# Altium integrated library Cypress Memory Asynchronous FIFO.IntLib: 158 symbols (part 3 of 4)
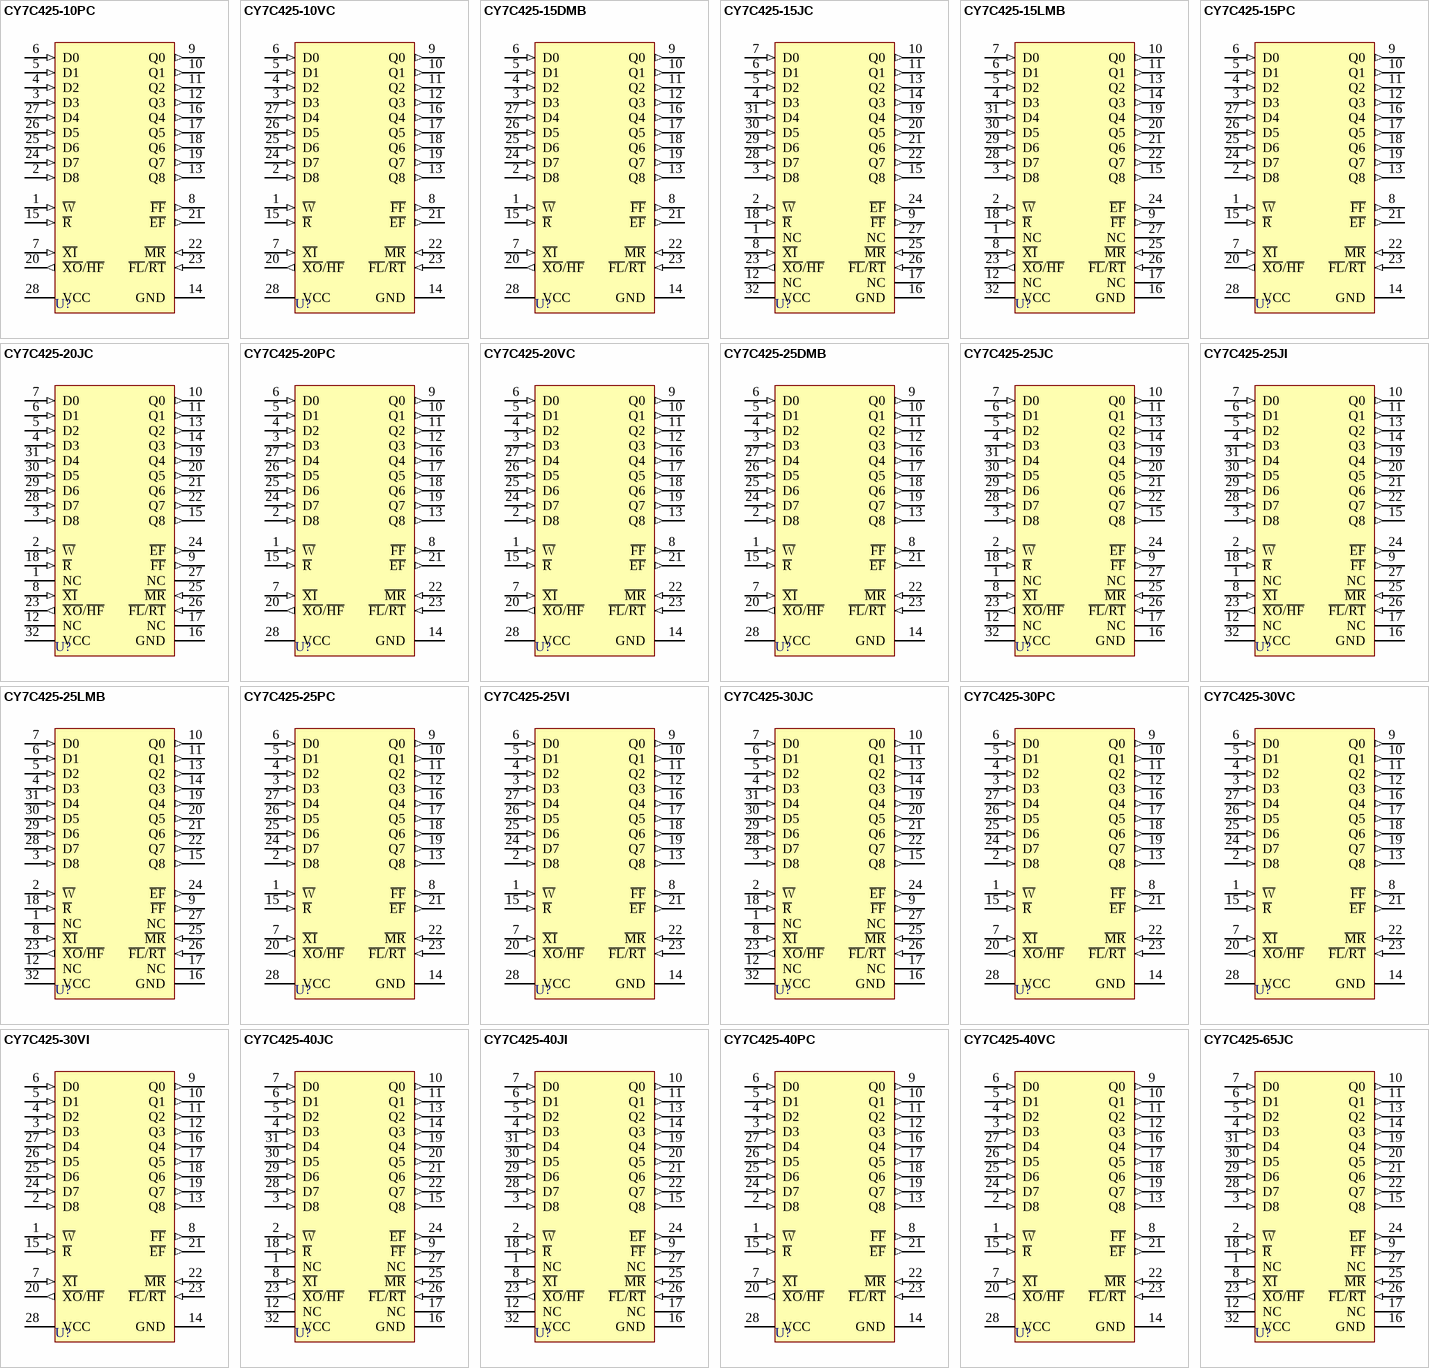
[diagram p8: symbols CY7C425-10PC to CY7C425-65JC]

## CY7C425-25LMB
designator U?
1K x 9 Asynchronous First-In First-Out; Published: 11-Dec-2002; DatasheetVersion: 4-Nov-1997; PackageVersion: Nov-1997; PackageReference: L55; Publisher: Altium Limited; PackageDescription: Leadless Chip Carrier; 32 Terminals; Body 11.4 x 14 mm; ComponentLink1Description: Manufacturer Link; ComponentLink1URL: http://www.cypress.com/; ComponentLink2Description: Datasheet; ComponentLink2URL: http://www.cypress.com/portal/server.pt/gateway/PTARGS_0_2_1524_209_259_43/http%3B/sjapp20.mis.cypress.com%3B7001/publishedcontent/publish/design_resources/datasheets/contents/cy7c419_5.pdf
footprint L55 (Leadless Chip Carrier; 32 Terminals; Body 11.4 x 14 mm)
pins: 1 NC, 2 ~{W} (in), 3 D8 (in), 4 D3 (in), 5 D2 (in), 6 D1 (in), 7 D0 (in), 8 ~{XI} (in), 9 ~{FF} (out), 10 Q0 (out), 11 Q1 (out), 12 NC, 13 Q2 (out), 14 Q3 (out), 15 Q8 (out), 16 GND (power), 17 NC, 18 ~{R} (in), 19 Q4 (out), 20 Q5 (out), 21 Q6 (out), 22 Q7 (out), 23 ~{XO}/~{HF} (out), 24 ~{EF} (out), 25 ~{MR} (in), 26 ~{FL}/~{RT} (in), 27 NC, 28 D7 (in), 29 D6 (in), 30 D5 (in), 31 D4 (in), 32 VCC (power)

## CY7C425-25PC
designator U?
1K x 9 Asynchronous First-In First-Out; Published: 11-Dec-2002; LatestRevisionDate: 04-Mar-2005; LatestRevisionNote: Stylized 3D Model Added.; DatasheetVersion: 4-Nov-1997; PackageVersion: Jul-2000; PackageReference: P21; Publisher: Altium Limited; PackageDescription: DIP, Molded; 28 Leads; Row Spacing 7.62 mm; Pitch 2.54 mm; ComponentLink1Description: Manufacturer Link; ComponentLink1URL: http://www.cypress.com/; ComponentLink2Description: Datasheet; ComponentLink2URL: http://www.cypress.com/portal/server.pt/gateway/PTARGS_0_2_1524_209_259_43/http%3B/sjapp20.mis.cypress.com%3B7001/publishedcontent/publish/design_resources/datasheets/contents/cy7c419_5.pdf
footprint P21 (DIP, Molded; 28 Leads; Row Spacing 7.62 mm; Pitch 2.54 mm)
3D model P21 (DIP, Molded; 28 Leads; Row Spacing 7.62 mm; Pitch 2.54 mm)
pins: 1 ~{W} (in), 2 D8 (in), 3 D3 (in), 4 D2 (in), 5 D1 (in), 6 D0 (in), 7 ~{XI} (in), 8 ~{FF} (out), 9 Q0 (out), 10 Q1 (out), 11 Q2 (out), 12 Q3 (out), 13 Q8 (out), 14 GND (power), 15 ~{R} (in), 16 Q4 (out), 17 Q5 (out), 18 Q6 (out), 19 Q7 (out), 20 ~{XO}/~{HF} (out), 21 ~{EF} (out), 22 ~{MR} (in), 23 ~{FL}/~{RT} (in), 24 D7 (in), 25 D6 (in), 26 D5 (in), 27 D4 (in), 28 VCC (power)

## CY7C425-25VI
designator U?
1K x 9 Asynchronous First-In First-Out; Published: 11-Dec-2002; LatestRevisionDate: 04-Mar-2005; LatestRevisionNote: Stylized 3D Model Added.; DatasheetVersion: 4-Nov-1997; PackageVersion: Jul-1994; PackageReference: V21; Publisher: Altium Limited; PackageDescription: SOJ, Molded; 28 Leads; Body Width 7.5 mm; ComponentLink1Description: Manufacturer Link; ComponentLink1URL: http://www.cypress.com/; ComponentLink2Description: Datasheet; ComponentLink2URL: http://www.cypress.com/portal/server.pt/gateway/PTARGS_0_2_1524_209_259_43/http%3B/sjapp20.mis.cypress.com%3B7001/publishedcontent/publish/design_resources/datasheets/contents/cy7c419_5.pdf
footprint V21 (SOJ, Molded; 28 Leads; Body Width 7.5 mm)
3D model V21 (SOJ, Molded; 28 Leads; Body Width 7.5 mm)
pins: 1 ~{W} (in), 2 D8 (in), 3 D3 (in), 4 D2 (in), 5 D1 (in), 6 D0 (in), 7 ~{XI} (in), 8 ~{FF} (out), 9 Q0 (out), 10 Q1 (out), 11 Q2 (out), 12 Q3 (out), 13 Q8 (out), 14 GND (power), 15 ~{R} (in), 16 Q4 (out), 17 Q5 (out), 18 Q6 (out), 19 Q7 (out), 20 ~{XO}/~{HF} (out), 21 ~{EF} (out), 22 ~{MR} (in), 23 ~{FL}/~{RT} (in), 24 D7 (in), 25 D6 (in), 26 D5 (in), 27 D4 (in), 28 VCC (power)

## CY7C425-30JC
designator U?
1K x 9 Asynchronous First-In First-Out; Published: 11-Dec-2002; LatestRevisionDate: 04-Mar-2005; LatestRevisionNote: Stylized 3D Model Added.; DatasheetVersion: 4-Nov-1997; PackageVersion: Nov-1997; PackageReference: J65; Publisher: Altium Limited; PackageDescription: PLCC; 32 Leads; Body 11.4 x 14 mm; Pitch 1.27 mm; Code_JEDEC: MS-016-AE; Code_IPC: PLCC/R-32; ComponentLink1Description: Manufacturer Link; ComponentLink1URL: http://www.cypress.com/; ComponentLink2Description: Datasheet; ComponentLink2URL: http://www.cypress.com/portal/server.pt/gateway/PTARGS_0_2_1524_209_259_43/http%3B/sjapp20.mis.cypress.com%3B7001/publishedcontent/publish/design_resources/datasheets/contents/cy7c419_5.pdf
footprint J65 (PLCC; 32 Leads; Body 11.4 x 14 mm; Pitch 1.27 mm)
3D model CY7C425-J65 (PLCC; 32 Leads; Body 11.4 x 14 mm; Pitch 1.27 mm)
pins: 1 NC, 2 ~{W} (in), 3 D8 (in), 4 D3 (in), 5 D2 (in), 6 D1 (in), 7 D0 (in), 8 ~{XI} (in), 9 ~{FF} (out), 10 Q0 (out), 11 Q1 (out), 12 NC, 13 Q2 (out), 14 Q3 (out), 15 Q8 (out), 16 GND (power), 17 NC, 18 ~{R} (in), 19 Q4 (out), 20 Q5 (out), 21 Q6 (out), 22 Q7 (out), 23 ~{XO}/~{HF} (out), 24 ~{EF} (out), 25 ~{MR} (in), 26 ~{FL}/~{RT} (in), 27 NC, 28 D7 (in), 29 D6 (in), 30 D5 (in), 31 D4 (in), 32 VCC (power)

## CY7C425-30PC
designator U?
1K x 9 Asynchronous First-In First-Out; Published: 11-Dec-2002; LatestRevisionDate: 04-Mar-2005; LatestRevisionNote: Stylized 3D Model Added.; DatasheetVersion: 4-Nov-1997; PackageVersion: Jul-2000; PackageReference: P21; Publisher: Altium Limited; PackageDescription: DIP, Molded; 28 Leads; Row Spacing 7.62 mm; Pitch 2.54 mm; ComponentLink1Description: Manufacturer Link; ComponentLink1URL: http://www.cypress.com/; ComponentLink2Description: Datasheet; ComponentLink2URL: http://www.cypress.com/portal/server.pt/gateway/PTARGS_0_2_1524_209_259_43/http%3B/sjapp20.mis.cypress.com%3B7001/publishedcontent/publish/design_resources/datasheets/contents/cy7c419_5.pdf
footprint P21 (DIP, Molded; 28 Leads; Row Spacing 7.62 mm; Pitch 2.54 mm)
3D model P21 (DIP, Molded; 28 Leads; Row Spacing 7.62 mm; Pitch 2.54 mm)
pins: 1 ~{W} (in), 2 D8 (in), 3 D3 (in), 4 D2 (in), 5 D1 (in), 6 D0 (in), 7 ~{XI} (in), 8 ~{FF} (out), 9 Q0 (out), 10 Q1 (out), 11 Q2 (out), 12 Q3 (out), 13 Q8 (out), 14 GND (power), 15 ~{R} (in), 16 Q4 (out), 17 Q5 (out), 18 Q6 (out), 19 Q7 (out), 20 ~{XO}/~{HF} (out), 21 ~{EF} (out), 22 ~{MR} (in), 23 ~{FL}/~{RT} (in), 24 D7 (in), 25 D6 (in), 26 D5 (in), 27 D4 (in), 28 VCC (power)

## CY7C425-30VC
designator U?
1K x 9 Asynchronous First-In First-Out; Published: 11-Dec-2002; LatestRevisionDate: 04-Mar-2005; LatestRevisionNote: Stylized 3D Model Added.; DatasheetVersion: 4-Nov-1997; PackageVersion: Jul-1994; PackageReference: V21; Publisher: Altium Limited; PackageDescription: SOJ, Molded; 28 Leads; Body Width 7.5 mm; ComponentLink1Description: Manufacturer Link; ComponentLink1URL: http://www.cypress.com/; ComponentLink2Description: Datasheet; ComponentLink2URL: http://www.cypress.com/portal/server.pt/gateway/PTARGS_0_2_1524_209_259_43/http%3B/sjapp20.mis.cypress.com%3B7001/publishedcontent/publish/design_resources/datasheets/contents/cy7c419_5.pdf
footprint V21 (SOJ, Molded; 28 Leads; Body Width 7.5 mm)
3D model V21 (SOJ, Molded; 28 Leads; Body Width 7.5 mm)
pins: 1 ~{W} (in), 2 D8 (in), 3 D3 (in), 4 D2 (in), 5 D1 (in), 6 D0 (in), 7 ~{XI} (in), 8 ~{FF} (out), 9 Q0 (out), 10 Q1 (out), 11 Q2 (out), 12 Q3 (out), 13 Q8 (out), 14 GND (power), 15 ~{R} (in), 16 Q4 (out), 17 Q5 (out), 18 Q6 (out), 19 Q7 (out), 20 ~{XO}/~{HF} (out), 21 ~{EF} (out), 22 ~{MR} (in), 23 ~{FL}/~{RT} (in), 24 D7 (in), 25 D6 (in), 26 D5 (in), 27 D4 (in), 28 VCC (power)

## CY7C425-30VI
designator U?
1K x 9 Asynchronous First-In First-Out; Published: 11-Dec-2002; LatestRevisionDate: 04-Mar-2005; LatestRevisionNote: Stylized 3D Model Added.; DatasheetVersion: 4-Nov-1997; PackageVersion: Jul-1994; PackageReference: V21; Publisher: Altium Limited; PackageDescription: SOJ, Molded; 28 Leads; Body Width 7.5 mm; ComponentLink1Description: Manufacturer Link; ComponentLink1URL: http://www.cypress.com/; ComponentLink2Description: Datasheet; ComponentLink2URL: http://www.cypress.com/portal/server.pt/gateway/PTARGS_0_2_1524_209_259_43/http%3B/sjapp20.mis.cypress.com%3B7001/publishedcontent/publish/design_resources/datasheets/contents/cy7c419_5.pdf
footprint V21 (SOJ, Molded; 28 Leads; Body Width 7.5 mm)
3D model V21 (SOJ, Molded; 28 Leads; Body Width 7.5 mm)
pins: 1 ~{W} (in), 2 D8 (in), 3 D3 (in), 4 D2 (in), 5 D1 (in), 6 D0 (in), 7 ~{XI} (in), 8 ~{FF} (out), 9 Q0 (out), 10 Q1 (out), 11 Q2 (out), 12 Q3 (out), 13 Q8 (out), 14 GND (power), 15 ~{R} (in), 16 Q4 (out), 17 Q5 (out), 18 Q6 (out), 19 Q7 (out), 20 ~{XO}/~{HF} (out), 21 ~{EF} (out), 22 ~{MR} (in), 23 ~{FL}/~{RT} (in), 24 D7 (in), 25 D6 (in), 26 D5 (in), 27 D4 (in), 28 VCC (power)

## CY7C425-40JC
designator U?
1K x 9 Asynchronous First-In First-Out; Published: 11-Dec-2002; LatestRevisionDate: 04-Mar-2005; LatestRevisionNote: Stylized 3D Model Added.; DatasheetVersion: 4-Nov-1997; PackageVersion: Nov-1997; PackageReference: J65; Publisher: Altium Limited; PackageDescription: PLCC; 32 Leads; Body 11.4 x 14 mm; Pitch 1.27 mm; Code_JEDEC: MS-016-AE; Code_IPC: PLCC/R-32; ComponentLink1Description: Manufacturer Link; ComponentLink1URL: http://www.cypress.com/; ComponentLink2Description: Datasheet; ComponentLink2URL: http://www.cypress.com/portal/server.pt/gateway/PTARGS_0_2_1524_209_259_43/http%3B/sjapp20.mis.cypress.com%3B7001/publishedcontent/publish/design_resources/datasheets/contents/cy7c419_5.pdf
footprint J65 (PLCC; 32 Leads; Body 11.4 x 14 mm; Pitch 1.27 mm)
3D model CY7C425-J65 (PLCC; 32 Leads; Body 11.4 x 14 mm; Pitch 1.27 mm)
pins: 1 NC, 2 ~{W} (in), 3 D8 (in), 4 D3 (in), 5 D2 (in), 6 D1 (in), 7 D0 (in), 8 ~{XI} (in), 9 ~{FF} (out), 10 Q0 (out), 11 Q1 (out), 12 NC, 13 Q2 (out), 14 Q3 (out), 15 Q8 (out), 16 GND (power), 17 NC, 18 ~{R} (in), 19 Q4 (out), 20 Q5 (out), 21 Q6 (out), 22 Q7 (out), 23 ~{XO}/~{HF} (out), 24 ~{EF} (out), 25 ~{MR} (in), 26 ~{FL}/~{RT} (in), 27 NC, 28 D7 (in), 29 D6 (in), 30 D5 (in), 31 D4 (in), 32 VCC (power)

## CY7C425-40JI
designator U?
1K x 9 Asynchronous First-In First-Out; Published: 11-Dec-2002; LatestRevisionDate: 04-Mar-2005; LatestRevisionNote: Stylized 3D Model Added.; DatasheetVersion: 4-Nov-1997; PackageVersion: Nov-1997; PackageReference: J65; Publisher: Altium Limited; PackageDescription: PLCC; 32 Leads; Body 11.4 x 14 mm; Pitch 1.27 mm; Code_JEDEC: MS-016-AE; Code_IPC: PLCC/R-32; ComponentLink1Description: Manufacturer Link; ComponentLink1URL: http://www.cypress.com/; ComponentLink2Description: Datasheet; ComponentLink2URL: http://www.cypress.com/portal/server.pt/gateway/PTARGS_0_2_1524_209_259_43/http%3B/sjapp20.mis.cypress.com%3B7001/publishedcontent/publish/design_resources/datasheets/contents/cy7c419_5.pdf
footprint J65 (PLCC; 32 Leads; Body 11.4 x 14 mm; Pitch 1.27 mm)
3D model CY7C425-J65 (PLCC; 32 Leads; Body 11.4 x 14 mm; Pitch 1.27 mm)
pins: 1 NC, 2 ~{W} (in), 3 D8 (in), 4 D3 (in), 5 D2 (in), 6 D1 (in), 7 D0 (in), 8 ~{XI} (in), 9 ~{FF} (out), 10 Q0 (out), 11 Q1 (out), 12 NC, 13 Q2 (out), 14 Q3 (out), 15 Q8 (out), 16 GND (power), 17 NC, 18 ~{R} (in), 19 Q4 (out), 20 Q5 (out), 21 Q6 (out), 22 Q7 (out), 23 ~{XO}/~{HF} (out), 24 ~{EF} (out), 25 ~{MR} (in), 26 ~{FL}/~{RT} (in), 27 NC, 28 D7 (in), 29 D6 (in), 30 D5 (in), 31 D4 (in), 32 VCC (power)

## CY7C425-40PC
designator U?
1K x 9 Asynchronous First-In First-Out; Published: 11-Dec-2002; LatestRevisionDate: 04-Mar-2005; LatestRevisionNote: Stylized 3D Model Added.; DatasheetVersion: 4-Nov-1997; PackageVersion: Jul-2000; PackageReference: P21; Publisher: Altium Limited; PackageDescription: DIP, Molded; 28 Leads; Row Spacing 7.62 mm; Pitch 2.54 mm; ComponentLink1Description: Manufacturer Link; ComponentLink1URL: http://www.cypress.com/; ComponentLink2Description: Datasheet; ComponentLink2URL: http://www.cypress.com/portal/server.pt/gateway/PTARGS_0_2_1524_209_259_43/http%3B/sjapp20.mis.cypress.com%3B7001/publishedcontent/publish/design_resources/datasheets/contents/cy7c419_5.pdf
footprint P21 (DIP, Molded; 28 Leads; Row Spacing 7.62 mm; Pitch 2.54 mm)
3D model P21 (DIP, Molded; 28 Leads; Row Spacing 7.62 mm; Pitch 2.54 mm)
pins: 1 ~{W} (in), 2 D8 (in), 3 D3 (in), 4 D2 (in), 5 D1 (in), 6 D0 (in), 7 ~{XI} (in), 8 ~{FF} (out), 9 Q0 (out), 10 Q1 (out), 11 Q2 (out), 12 Q3 (out), 13 Q8 (out), 14 GND (power), 15 ~{R} (in), 16 Q4 (out), 17 Q5 (out), 18 Q6 (out), 19 Q7 (out), 20 ~{XO}/~{HF} (out), 21 ~{EF} (out), 22 ~{MR} (in), 23 ~{FL}/~{RT} (in), 24 D7 (in), 25 D6 (in), 26 D5 (in), 27 D4 (in), 28 VCC (power)

## CY7C425-40VC
designator U?
1K x 9 Asynchronous First-In First-Out; Published: 11-Dec-2002; LatestRevisionDate: 04-Mar-2005; LatestRevisionNote: Stylized 3D Model Added.; DatasheetVersion: 4-Nov-1997; PackageVersion: Jul-1994; PackageReference: V21; Publisher: Altium Limited; PackageDescription: SOJ, Molded; 28 Leads; Body Width 7.5 mm; ComponentLink1Description: Manufacturer Link; ComponentLink1URL: http://www.cypress.com/; ComponentLink2Description: Datasheet; ComponentLink2URL: http://www.cypress.com/portal/server.pt/gateway/PTARGS_0_2_1524_209_259_43/http%3B/sjapp20.mis.cypress.com%3B7001/publishedcontent/publish/design_resources/datasheets/contents/cy7c419_5.pdf
footprint V21 (SOJ, Molded; 28 Leads; Body Width 7.5 mm)
3D model V21 (SOJ, Molded; 28 Leads; Body Width 7.5 mm)
pins: 1 ~{W} (in), 2 D8 (in), 3 D3 (in), 4 D2 (in), 5 D1 (in), 6 D0 (in), 7 ~{XI} (in), 8 ~{FF} (out), 9 Q0 (out), 10 Q1 (out), 11 Q2 (out), 12 Q3 (out), 13 Q8 (out), 14 GND (power), 15 ~{R} (in), 16 Q4 (out), 17 Q5 (out), 18 Q6 (out), 19 Q7 (out), 20 ~{XO}/~{HF} (out), 21 ~{EF} (out), 22 ~{MR} (in), 23 ~{FL}/~{RT} (in), 24 D7 (in), 25 D6 (in), 26 D5 (in), 27 D4 (in), 28 VCC (power)

## CY7C425-65JC
designator U?
1K x 9 Asynchronous First-In First-Out; Published: 11-Dec-2002; LatestRevisionDate: 04-Mar-2005; LatestRevisionNote: Stylized 3D Model Added.; DatasheetVersion: 4-Nov-1997; PackageVersion: Nov-1997; PackageReference: J65; Publisher: Altium Limited; PackageDescription: PLCC; 32 Leads; Body 11.4 x 14 mm; Pitch 1.27 mm; Code_JEDEC: MS-016-AE; Code_IPC: PLCC/R-32; ComponentLink1Description: Manufacturer Link; ComponentLink1URL: http://www.cypress.com/; ComponentLink2Description: Datasheet; ComponentLink2URL: http://www.cypress.com/portal/server.pt/gateway/PTARGS_0_2_1524_209_259_43/http%3B/sjapp20.mis.cypress.com%3B7001/publishedcontent/publish/design_resources/datasheets/contents/cy7c419_5.pdf
footprint J65 (PLCC; 32 Leads; Body 11.4 x 14 mm; Pitch 1.27 mm)
3D model CY7C425-J65 (PLCC; 32 Leads; Body 11.4 x 14 mm; Pitch 1.27 mm)
pins: 1 NC, 2 ~{W} (in), 3 D8 (in), 4 D3 (in), 5 D2 (in), 6 D1 (in), 7 D0 (in), 8 ~{XI} (in), 9 ~{FF} (out), 10 Q0 (out), 11 Q1 (out), 12 NC, 13 Q2 (out), 14 Q3 (out), 15 Q8 (out), 16 GND (power), 17 NC, 18 ~{R} (in), 19 Q4 (out), 20 Q5 (out), 21 Q6 (out), 22 Q7 (out), 23 ~{XO}/~{HF} (out), 24 ~{EF} (out), 25 ~{MR} (in), 26 ~{FL}/~{RT} (in), 27 NC, 28 D7 (in), 29 D6 (in), 30 D5 (in), 31 D4 (in), 32 VCC (power)

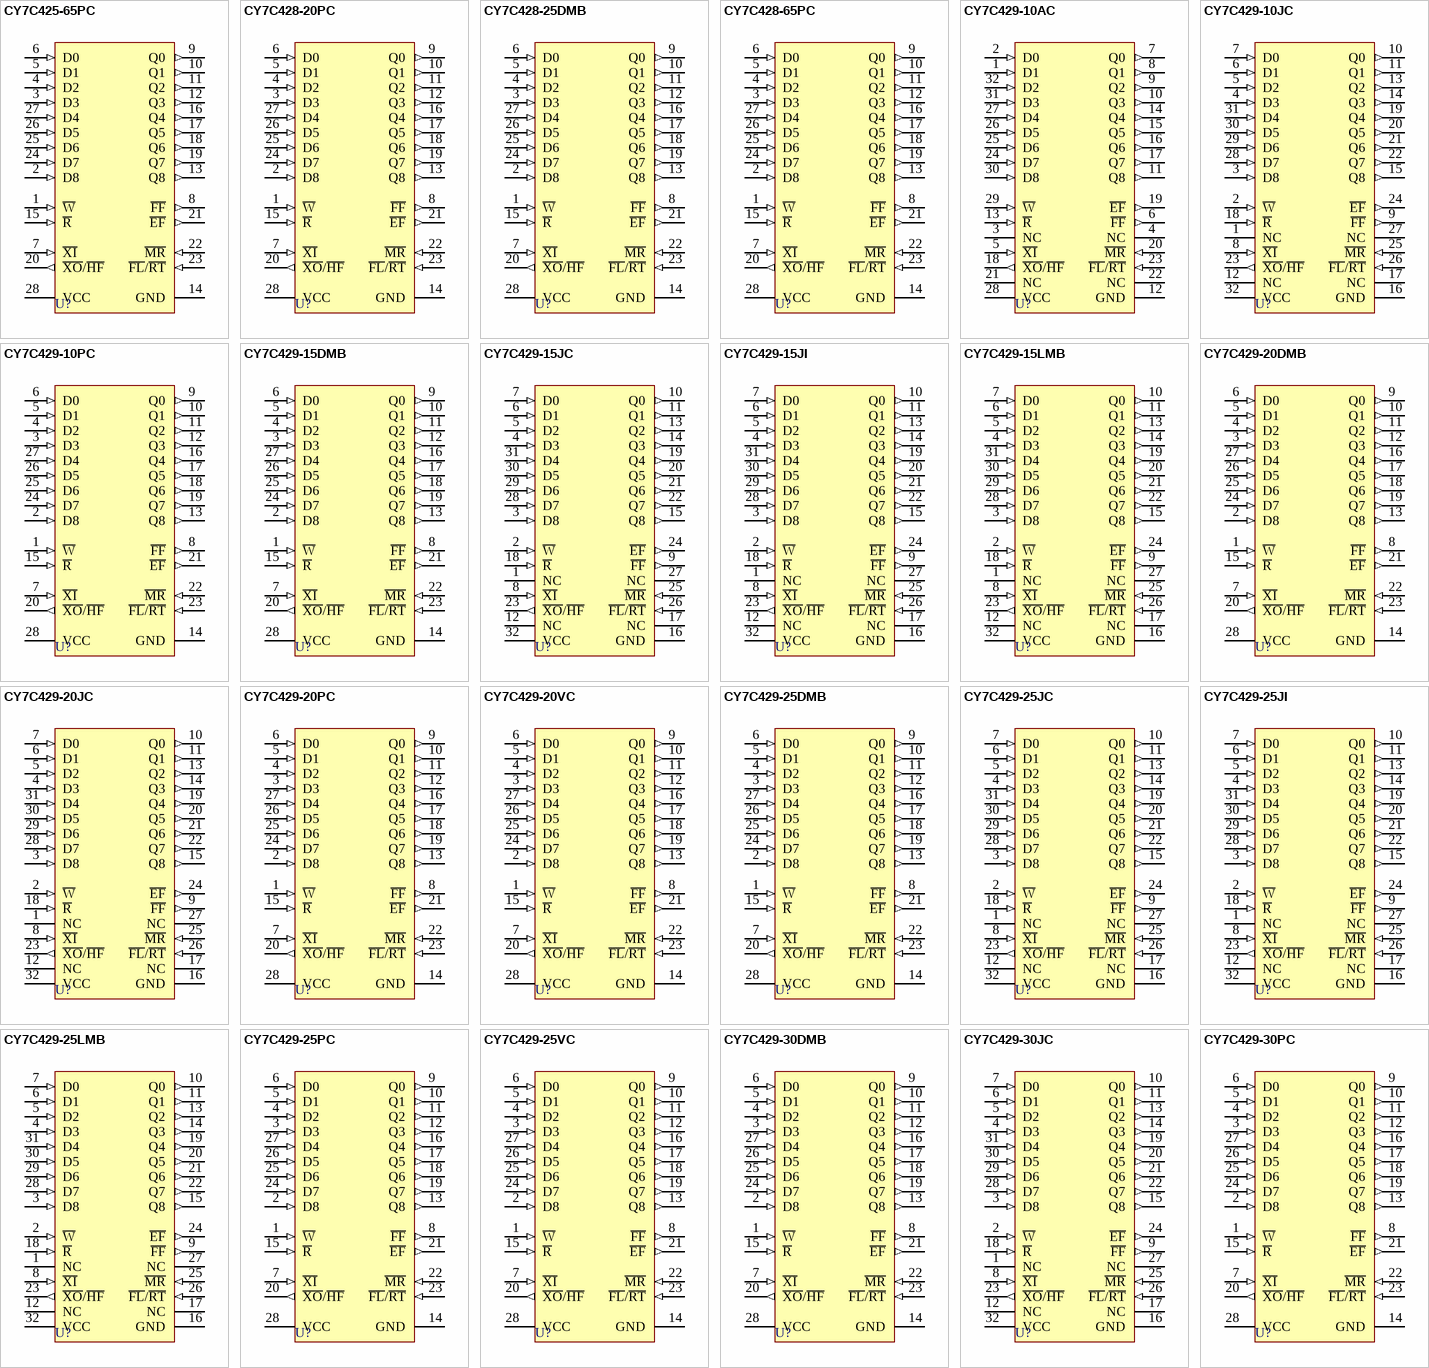
[diagram p4: symbols CY7C425-65PC to CY7C429-30PC]

## CY7C425-65PC
designator U?
1K x 9 Asynchronous First-In First-Out; Published: 11-Dec-2002; LatestRevisionDate: 04-Mar-2005; LatestRevisionNote: Stylized 3D Model Added.; DatasheetVersion: 4-Nov-1997; PackageVersion: Jul-2000; PackageReference: P21; Publisher: Altium Limited; PackageDescription: DIP, Molded; 28 Leads; Row Spacing 7.62 mm; Pitch 2.54 mm; ComponentLink1Description: Manufacturer Link; ComponentLink1URL: http://www.cypress.com/; ComponentLink2Description: Datasheet; ComponentLink2URL: http://www.cypress.com/portal/server.pt/gateway/PTARGS_0_2_1524_209_259_43/http%3B/sjapp20.mis.cypress.com%3B7001/publishedcontent/publish/design_resources/datasheets/contents/cy7c419_5.pdf
footprint P21 (DIP, Molded; 28 Leads; Row Spacing 7.62 mm; Pitch 2.54 mm)
3D model P21 (DIP, Molded; 28 Leads; Row Spacing 7.62 mm; Pitch 2.54 mm)
pins: 1 ~{W} (in), 2 D8 (in), 3 D3 (in), 4 D2 (in), 5 D1 (in), 6 D0 (in), 7 ~{XI} (in), 8 ~{FF} (out), 9 Q0 (out), 10 Q1 (out), 11 Q2 (out), 12 Q3 (out), 13 Q8 (out), 14 GND (power), 15 ~{R} (in), 16 Q4 (out), 17 Q5 (out), 18 Q6 (out), 19 Q7 (out), 20 ~{XO}/~{HF} (out), 21 ~{EF} (out), 22 ~{MR} (in), 23 ~{FL}/~{RT} (in), 24 D7 (in), 25 D6 (in), 26 D5 (in), 27 D4 (in), 28 VCC (power)

## CY7C428-20PC
designator U?
2K x 9 Asynchronous First-In First-Out; Published: 11-Dec-2002; LatestRevisionDate: 04-Mar-2005; LatestRevisionNote: Stylized 3D Model Added.; DatasheetVersion: 4-Nov-1997; PackageVersion: Nov-1997; PackageReference: P15; Publisher: Altium Limited; PackageDescription: DIP, Molded; 28 Leads; Row Spacing 15.24 mm; Pitch 2.54 mm; ComponentLink1Description: Manufacturer Link; ComponentLink1URL: http://www.cypress.com/; ComponentLink2Description: Datasheet; ComponentLink2URL: http://www.cypress.com/portal/server.pt/gateway/PTARGS_0_2_1524_209_259_43/http%3B/sjapp20.mis.cypress.com%3B7001/publishedcontent/publish/design_resources/datasheets/contents/cy7c419_5.pdf
footprint P15 (DIP, Molded; 28 Leads; Row Spacing 15.24 mm; Pitch 2.54 mm)
3D model P15 (DIP, Molded; 28 Leads; Row Spacing 15.24 mm; Pitch 2.54 mm)
pins: 1 ~{W} (in), 2 D8 (in), 3 D3 (in), 4 D2 (in), 5 D1 (in), 6 D0 (in), 7 ~{XI} (in), 8 ~{FF} (out), 9 Q0 (out), 10 Q1 (out), 11 Q2 (out), 12 Q3 (out), 13 Q8 (out), 14 GND (power), 15 ~{R} (in), 16 Q4 (out), 17 Q5 (out), 18 Q6 (out), 19 Q7 (out), 20 ~{XO}/~{HF} (out), 21 ~{EF} (out), 22 ~{MR} (in), 23 ~{FL}/~{RT} (in), 24 D7 (in), 25 D6 (in), 26 D5 (in), 27 D4 (in), 28 VCC (power)

## CY7C428-25DMB
designator U?
2K x 9 Asynchronous First-In First-Out; Published: 11-Dec-2002; LatestRevisionDate: 04-Mar-2005; LatestRevisionNote: Stylized 3D Model Added.; DatasheetVersion: 4-Nov-1997; PackageVersion: Nov-1997; PackageReference: D16; Publisher: Altium Limited; PackageDescription: CerDIP; 28 Leads; Row Spacing 15.24 mm; Pitch 2.54 mm; ComponentLink1Description: Manufacturer Link; ComponentLink1URL: http://www.cypress.com/; ComponentLink2Description: Datasheet; ComponentLink2URL: http://www.cypress.com/portal/server.pt/gateway/PTARGS_0_2_1524_209_259_43/http%3B/sjapp20.mis.cypress.com%3B7001/publishedcontent/publish/design_resources/datasheets/contents/cy7c419_5.pdf
footprint D16 (CerDIP; 28 Leads; Row Spacing 15.24 mm; Pitch 2.54 mm)
3D model P15 (CerDIP; 28 Leads; Row Spacing 15.24 mm; Pitch 2.54 mm)
pins: 1 ~{W} (in), 2 D8 (in), 3 D3 (in), 4 D2 (in), 5 D1 (in), 6 D0 (in), 7 ~{XI} (in), 8 ~{FF} (out), 9 Q0 (out), 10 Q1 (out), 11 Q2 (out), 12 Q3 (out), 13 Q8 (out), 14 GND (power), 15 ~{R} (in), 16 Q4 (out), 17 Q5 (out), 18 Q6 (out), 19 Q7 (out), 20 ~{XO}/~{HF} (out), 21 ~{EF} (out), 22 ~{MR} (in), 23 ~{FL}/~{RT} (in), 24 D7 (in), 25 D6 (in), 26 D5 (in), 27 D4 (in), 28 VCC (power)

## CY7C428-65PC
designator U?
2K x 9 Asynchronous First-In First-Out; Published: 11-Dec-2002; LatestRevisionDate: 04-Mar-2005; LatestRevisionNote: Stylized 3D Model Added.; DatasheetVersion: 4-Nov-1997; PackageVersion: Nov-1997; PackageReference: P15; Publisher: Altium Limited; PackageDescription: DIP, Molded; 28 Leads; Row Spacing 15.24 mm; Pitch 2.54 mm; ComponentLink1Description: Manufacturer Link; ComponentLink1URL: http://www.cypress.com/; ComponentLink2Description: Datasheet; ComponentLink2URL: http://www.cypress.com/portal/server.pt/gateway/PTARGS_0_2_1524_209_259_43/http%3B/sjapp20.mis.cypress.com%3B7001/publishedcontent/publish/design_resources/datasheets/contents/cy7c419_5.pdf
footprint P15 (DIP, Molded; 28 Leads; Row Spacing 15.24 mm; Pitch 2.54 mm)
3D model P15 (DIP, Molded; 28 Leads; Row Spacing 15.24 mm; Pitch 2.54 mm)
pins: 1 ~{W} (in), 2 D8 (in), 3 D3 (in), 4 D2 (in), 5 D1 (in), 6 D0 (in), 7 ~{XI} (in), 8 ~{FF} (out), 9 Q0 (out), 10 Q1 (out), 11 Q2 (out), 12 Q3 (out), 13 Q8 (out), 14 GND (power), 15 ~{R} (in), 16 Q4 (out), 17 Q5 (out), 18 Q6 (out), 19 Q7 (out), 20 ~{XO}/~{HF} (out), 21 ~{EF} (out), 22 ~{MR} (in), 23 ~{FL}/~{RT} (in), 24 D7 (in), 25 D6 (in), 26 D5 (in), 27 D4 (in), 28 VCC (power)

## CY7C429-10AC
designator U?
2K x 9 Asynchronous First-In First-Out; Published: 11-Dec-2002; LatestRevisionDate: 13-Apr-2006; LatestRevisionNote: IPC-7351 Footprint Added.; DatasheetVersion: 4-Nov-1997; PackageVersion: Nov-1997; PackageReference: A32; Publisher: Altium Limited; PackageDescription: 32-Pin Thin Plastic Quad Flat Pack 0.8 mm Pitch; ComponentLink1Description: Manufacturer Link; ComponentLink1URL: http://www.cypress.com/; ComponentLink2Description: Datasheet; ComponentLink2URL: http://www.cypress.com/portal/server.pt/gateway/PTARGS_0_2_1524_209_259_43/http%3B/sjapp20.mis.cypress.com%3B7001/publishedcontent/publish/design_resources/datasheets/contents/cy7c419_5.pdf
footprint A32_N (Thin QFP, 32-Leads, Body 7x7mm, Pitch 0.8mm, IPC Medium Density)
footprint A32_L (Thin QFP, 32-Leads, Body 7x7mm, Pitch 0.8mm, IPC High Density)
footprint A32_M (Thin QFP, 32-Leads, Body 7x7mm, Pitch 0.8mm, IPC Low Density)
3D model CY7C429-A32 (32-Pin Thin Plastic Quad Flat Pack 0.8 mm Pitch)
pins: 1 D1 (in), 2 D0 (in), 3 NC, 4 NC, 5 ~{XI} (in), 6 ~{FF} (out), 7 Q0 (out), 8 Q1 (out), 9 Q2 (out), 10 Q3 (out), 11 Q8 (out), 12 GND (power), 13 ~{R} (in), 14 Q4 (out), 15 Q5 (out), 16 Q6 (out), 17 Q7 (out), 18 ~{XO}/~{HF} (out), 19 ~{EF} (out), 20 ~{MR} (in), 21 NC, 22 NC, 23 ~{FL}/~{RT} (in), 24 D7 (in), 25 D6 (in), 26 D5 (in), 27 D4 (in), 28 VCC (power), 29 ~{W} (in), 30 D8 (in), 31 D3 (in), 32 D2 (in)

## CY7C429-10JC
designator U?
2K x 9 Asynchronous First-In First-Out; Published: 11-Dec-2002; LatestRevisionDate: 04-Mar-2005; LatestRevisionNote: Stylized 3D Model Added.; DatasheetVersion: 4-Nov-1997; PackageVersion: Nov-1997; PackageReference: J65; Publisher: Altium Limited; PackageDescription: PLCC; 32 Leads; Body 11.4 x 14 mm; Pitch 1.27 mm; Code_JEDEC: MS-016-AE; Code_IPC: PLCC/R-32; ComponentLink1Description: Manufacturer Link; ComponentLink1URL: http://www.cypress.com/; ComponentLink2Description: Datasheet; ComponentLink2URL: http://www.cypress.com/portal/server.pt/gateway/PTARGS_0_2_1524_209_259_43/http%3B/sjapp20.mis.cypress.com%3B7001/publishedcontent/publish/design_resources/datasheets/contents/cy7c419_5.pdf
footprint J65 (PLCC; 32 Leads; Body 11.4 x 14 mm; Pitch 1.27 mm)
3D model CY7C429-J65 (PLCC; 32 Leads; Body 11.4 x 14 mm; Pitch 1.27 mm)
pins: 1 NC, 2 ~{W} (in), 3 D8 (in), 4 D3 (in), 5 D2 (in), 6 D1 (in), 7 D0 (in), 8 ~{XI} (in), 9 ~{FF} (out), 10 Q0 (out), 11 Q1 (out), 12 NC, 13 Q2 (out), 14 Q3 (out), 15 Q8 (out), 16 GND (power), 17 NC, 18 ~{R} (in), 19 Q4 (out), 20 Q5 (out), 21 Q6 (out), 22 Q7 (out), 23 ~{XO}/~{HF} (out), 24 ~{EF} (out), 25 ~{MR} (in), 26 ~{FL}/~{RT} (in), 27 NC, 28 D7 (in), 29 D6 (in), 30 D5 (in), 31 D4 (in), 32 VCC (power)

## CY7C429-10PC
designator U?
2K x 9 Asynchronous First-In First-Out; Published: 11-Dec-2002; LatestRevisionDate: 04-Mar-2005; LatestRevisionNote: Stylized 3D Model Added.; DatasheetVersion: 4-Nov-1997; PackageVersion: Jul-2000; PackageReference: P21; Publisher: Altium Limited; PackageDescription: DIP, Molded; 28 Leads; Row Spacing 7.62 mm; Pitch 2.54 mm; ComponentLink1Description: Manufacturer Link; ComponentLink1URL: http://www.cypress.com/; ComponentLink2Description: Datasheet; ComponentLink2URL: http://www.cypress.com/portal/server.pt/gateway/PTARGS_0_2_1524_209_259_43/http%3B/sjapp20.mis.cypress.com%3B7001/publishedcontent/publish/design_resources/datasheets/contents/cy7c419_5.pdf
footprint P21 (DIP, Molded; 28 Leads; Row Spacing 7.62 mm; Pitch 2.54 mm)
3D model P21 (DIP, Molded; 28 Leads; Row Spacing 7.62 mm; Pitch 2.54 mm)
pins: 1 ~{W} (in), 2 D8 (in), 3 D3 (in), 4 D2 (in), 5 D1 (in), 6 D0 (in), 7 ~{XI} (in), 8 ~{FF} (out), 9 Q0 (out), 10 Q1 (out), 11 Q2 (out), 12 Q3 (out), 13 Q8 (out), 14 GND (power), 15 ~{R} (in), 16 Q4 (out), 17 Q5 (out), 18 Q6 (out), 19 Q7 (out), 20 ~{XO}/~{HF} (out), 21 ~{EF} (out), 22 ~{MR} (in), 23 ~{FL}/~{RT} (in), 24 D7 (in), 25 D6 (in), 26 D5 (in), 27 D4 (in), 28 VCC (power)

## CY7C429-15DMB
designator U?
2K x 9 Asynchronous First-In First-Out; Published: 11-Dec-2002; LatestRevisionDate: 04-Mar-2005; LatestRevisionNote: Stylized 3D Model Added.; DatasheetVersion: 4-Nov-1997; PackageVersion: Mar-1997; PackageReference: D22; Publisher: Altium Limited; PackageDescription: CerDIP; 28 Leads; Row Spacing 7.62 mm; Pitch 2.54 mm; ComponentLink1Description: Manufacturer Link; ComponentLink1URL: http://www.cypress.com/; ComponentLink2Description: Datasheet; ComponentLink2URL: http://www.cypress.com/portal/server.pt/gateway/PTARGS_0_2_1524_209_259_43/http%3B/sjapp20.mis.cypress.com%3B7001/publishedcontent/publish/design_resources/datasheets/contents/cy7c419_5.pdf
footprint D22 (CerDIP; 28 Leads; Row Spacing 7.62 mm; Pitch 2.54 mm)
3D model D22 (CerDIP; 28 Leads; Row Spacing 7.62 mm; Pitch 2.54 mm)
pins: 1 ~{W} (in), 2 D8 (in), 3 D3 (in), 4 D2 (in), 5 D1 (in), 6 D0 (in), 7 ~{XI} (in), 8 ~{FF} (out), 9 Q0 (out), 10 Q1 (out), 11 Q2 (out), 12 Q3 (out), 13 Q8 (out), 14 GND (power), 15 ~{R} (in), 16 Q4 (out), 17 Q5 (out), 18 Q6 (out), 19 Q7 (out), 20 ~{XO}/~{HF} (out), 21 ~{EF} (out), 22 ~{MR} (in), 23 ~{FL}/~{RT} (in), 24 D7 (in), 25 D6 (in), 26 D5 (in), 27 D4 (in), 28 VCC (power)

## CY7C429-15JC
designator U?
2K x 9 Asynchronous First-In First-Out; Published: 11-Dec-2002; LatestRevisionDate: 04-Mar-2005; LatestRevisionNote: Stylized 3D Model Added.; DatasheetVersion: 4-Nov-1997; PackageVersion: Nov-1997; PackageReference: J65; Publisher: Altium Limited; PackageDescription: PLCC; 32 Leads; Body 11.4 x 14 mm; Pitch 1.27 mm; Code_JEDEC: MS-016-AE; Code_IPC: PLCC/R-32; ComponentLink1Description: Manufacturer Link; ComponentLink1URL: http://www.cypress.com/; ComponentLink2Description: Datasheet; ComponentLink2URL: http://www.cypress.com/portal/server.pt/gateway/PTARGS_0_2_1524_209_259_43/http%3B/sjapp20.mis.cypress.com%3B7001/publishedcontent/publish/design_resources/datasheets/contents/cy7c419_5.pdf
footprint J65 (PLCC; 32 Leads; Body 11.4 x 14 mm; Pitch 1.27 mm)
3D model CY7C429-J65 (PLCC; 32 Leads; Body 11.4 x 14 mm; Pitch 1.27 mm)
pins: 1 NC, 2 ~{W} (in), 3 D8 (in), 4 D3 (in), 5 D2 (in), 6 D1 (in), 7 D0 (in), 8 ~{XI} (in), 9 ~{FF} (out), 10 Q0 (out), 11 Q1 (out), 12 NC, 13 Q2 (out), 14 Q3 (out), 15 Q8 (out), 16 GND (power), 17 NC, 18 ~{R} (in), 19 Q4 (out), 20 Q5 (out), 21 Q6 (out), 22 Q7 (out), 23 ~{XO}/~{HF} (out), 24 ~{EF} (out), 25 ~{MR} (in), 26 ~{FL}/~{RT} (in), 27 NC, 28 D7 (in), 29 D6 (in), 30 D5 (in), 31 D4 (in), 32 VCC (power)

## CY7C429-15JI
designator U?
2K x 9 Asynchronous First-In First-Out; Published: 11-Dec-2002; LatestRevisionDate: 04-Mar-2005; LatestRevisionNote: Stylized 3D Model Added.; DatasheetVersion: 4-Nov-1997; PackageVersion: Nov-1997; PackageReference: J65; Publisher: Altium Limited; PackageDescription: PLCC; 32 Leads; Body 11.4 x 14 mm; Pitch 1.27 mm; Code_JEDEC: MS-016-AE; Code_IPC: PLCC/R-32; ComponentLink1Description: Manufacturer Link; ComponentLink1URL: http://www.cypress.com/; ComponentLink2Description: Datasheet; ComponentLink2URL: http://www.cypress.com/portal/server.pt/gateway/PTARGS_0_2_1524_209_259_43/http%3B/sjapp20.mis.cypress.com%3B7001/publishedcontent/publish/design_resources/datasheets/contents/cy7c419_5.pdf
footprint J65 (PLCC; 32 Leads; Body 11.4 x 14 mm; Pitch 1.27 mm)
3D model CY7C429-J65 (PLCC; 32 Leads; Body 11.4 x 14 mm; Pitch 1.27 mm)
pins: 1 NC, 2 ~{W} (in), 3 D8 (in), 4 D3 (in), 5 D2 (in), 6 D1 (in), 7 D0 (in), 8 ~{XI} (in), 9 ~{FF} (out), 10 Q0 (out), 11 Q1 (out), 12 NC, 13 Q2 (out), 14 Q3 (out), 15 Q8 (out), 16 GND (power), 17 NC, 18 ~{R} (in), 19 Q4 (out), 20 Q5 (out), 21 Q6 (out), 22 Q7 (out), 23 ~{XO}/~{HF} (out), 24 ~{EF} (out), 25 ~{MR} (in), 26 ~{FL}/~{RT} (in), 27 NC, 28 D7 (in), 29 D6 (in), 30 D5 (in), 31 D4 (in), 32 VCC (power)

## CY7C429-15LMB
designator U?
2K x 9 Asynchronous First-In First-Out; Published: 11-Dec-2002; DatasheetVersion: 4-Nov-1997; PackageVersion: Nov-1997; PackageReference: L55; Publisher: Altium Limited; PackageDescription: Leadless Chip Carrier; 32 Terminals; Body 11.4 x 14 mm; ComponentLink1Description: Manufacturer Link; ComponentLink1URL: http://www.cypress.com/; ComponentLink2Description: Datasheet; ComponentLink2URL: http://www.cypress.com/portal/server.pt/gateway/PTARGS_0_2_1524_209_259_43/http%3B/sjapp20.mis.cypress.com%3B7001/publishedcontent/publish/design_resources/datasheets/contents/cy7c419_5.pdf
footprint L55 (Leadless Chip Carrier; 32 Terminals; Body 11.4 x 14 mm)
pins: 1 NC, 2 ~{W} (in), 3 D8 (in), 4 D3 (in), 5 D2 (in), 6 D1 (in), 7 D0 (in), 8 ~{XI} (in), 9 ~{FF} (out), 10 Q0 (out), 11 Q1 (out), 12 NC, 13 Q2 (out), 14 Q3 (out), 15 Q8 (out), 16 GND (power), 17 NC, 18 ~{R} (in), 19 Q4 (out), 20 Q5 (out), 21 Q6 (out), 22 Q7 (out), 23 ~{XO}/~{HF} (out), 24 ~{EF} (out), 25 ~{MR} (in), 26 ~{FL}/~{RT} (in), 27 NC, 28 D7 (in), 29 D6 (in), 30 D5 (in), 31 D4 (in), 32 VCC (power)

## CY7C429-20DMB
designator U?
2K x 9 Asynchronous First-In First-Out; Published: 11-Dec-2002; LatestRevisionDate: 04-Mar-2005; LatestRevisionNote: Stylized 3D Model Added.; DatasheetVersion: 4-Nov-1997; PackageVersion: Mar-1997; PackageReference: D22; Publisher: Altium Limited; PackageDescription: CerDIP; 28 Leads; Row Spacing 7.62 mm; Pitch 2.54 mm; ComponentLink1Description: Manufacturer Link; ComponentLink1URL: http://www.cypress.com/; ComponentLink2Description: Datasheet; ComponentLink2URL: http://www.cypress.com/portal/server.pt/gateway/PTARGS_0_2_1524_209_259_43/http%3B/sjapp20.mis.cypress.com%3B7001/publishedcontent/publish/design_resources/datasheets/contents/cy7c419_5.pdf
footprint D22 (CerDIP; 28 Leads; Row Spacing 7.62 mm; Pitch 2.54 mm)
3D model D22 (CerDIP; 28 Leads; Row Spacing 7.62 mm; Pitch 2.54 mm)
pins: 1 ~{W} (in), 2 D8 (in), 3 D3 (in), 4 D2 (in), 5 D1 (in), 6 D0 (in), 7 ~{XI} (in), 8 ~{FF} (out), 9 Q0 (out), 10 Q1 (out), 11 Q2 (out), 12 Q3 (out), 13 Q8 (out), 14 GND (power), 15 ~{R} (in), 16 Q4 (out), 17 Q5 (out), 18 Q6 (out), 19 Q7 (out), 20 ~{XO}/~{HF} (out), 21 ~{EF} (out), 22 ~{MR} (in), 23 ~{FL}/~{RT} (in), 24 D7 (in), 25 D6 (in), 26 D5 (in), 27 D4 (in), 28 VCC (power)

## CY7C429-20JC
designator U?
2K x 9 Asynchronous First-In First-Out; Published: 11-Dec-2002; LatestRevisionDate: 04-Mar-2005; LatestRevisionNote: Stylized 3D Model Added.; DatasheetVersion: 4-Nov-1997; PackageVersion: Nov-1997; PackageReference: J65; Publisher: Altium Limited; PackageDescription: PLCC; 32 Leads; Body 11.4 x 14 mm; Pitch 1.27 mm; Code_JEDEC: MS-016-AE; Code_IPC: PLCC/R-32; ComponentLink1Description: Manufacturer Link; ComponentLink1URL: http://www.cypress.com/; ComponentLink2Description: Datasheet; ComponentLink2URL: http://www.cypress.com/portal/server.pt/gateway/PTARGS_0_2_1524_209_259_43/http%3B/sjapp20.mis.cypress.com%3B7001/publishedcontent/publish/design_resources/datasheets/contents/cy7c419_5.pdf
footprint J65 (PLCC; 32 Leads; Body 11.4 x 14 mm; Pitch 1.27 mm)
3D model CY7C429-J65 (PLCC; 32 Leads; Body 11.4 x 14 mm; Pitch 1.27 mm)
pins: 1 NC, 2 ~{W} (in), 3 D8 (in), 4 D3 (in), 5 D2 (in), 6 D1 (in), 7 D0 (in), 8 ~{XI} (in), 9 ~{FF} (out), 10 Q0 (out), 11 Q1 (out), 12 NC, 13 Q2 (out), 14 Q3 (out), 15 Q8 (out), 16 GND (power), 17 NC, 18 ~{R} (in), 19 Q4 (out), 20 Q5 (out), 21 Q6 (out), 22 Q7 (out), 23 ~{XO}/~{HF} (out), 24 ~{EF} (out), 25 ~{MR} (in), 26 ~{FL}/~{RT} (in), 27 NC, 28 D7 (in), 29 D6 (in), 30 D5 (in), 31 D4 (in), 32 VCC (power)

## CY7C429-20PC
designator U?
2K x 9 Asynchronous First-In First-Out; Published: 11-Dec-2002; LatestRevisionDate: 04-Mar-2005; LatestRevisionNote: Stylized 3D Model Added.; DatasheetVersion: 4-Nov-1997; PackageVersion: Jul-2000; PackageReference: P21; Publisher: Altium Limited; PackageDescription: DIP, Molded; 28 Leads; Row Spacing 7.62 mm; Pitch 2.54 mm; ComponentLink1Description: Manufacturer Link; ComponentLink1URL: http://www.cypress.com/; ComponentLink2Description: Datasheet; ComponentLink2URL: http://www.cypress.com/portal/server.pt/gateway/PTARGS_0_2_1524_209_259_43/http%3B/sjapp20.mis.cypress.com%3B7001/publishedcontent/publish/design_resources/datasheets/contents/cy7c419_5.pdf
footprint P21 (DIP, Molded; 28 Leads; Row Spacing 7.62 mm; Pitch 2.54 mm)
3D model P21 (DIP, Molded; 28 Leads; Row Spacing 7.62 mm; Pitch 2.54 mm)
pins: 1 ~{W} (in), 2 D8 (in), 3 D3 (in), 4 D2 (in), 5 D1 (in), 6 D0 (in), 7 ~{XI} (in), 8 ~{FF} (out), 9 Q0 (out), 10 Q1 (out), 11 Q2 (out), 12 Q3 (out), 13 Q8 (out), 14 GND (power), 15 ~{R} (in), 16 Q4 (out), 17 Q5 (out), 18 Q6 (out), 19 Q7 (out), 20 ~{XO}/~{HF} (out), 21 ~{EF} (out), 22 ~{MR} (in), 23 ~{FL}/~{RT} (in), 24 D7 (in), 25 D6 (in), 26 D5 (in), 27 D4 (in), 28 VCC (power)

## CY7C429-20VC
designator U?
2K x 9 Asynchronous First-In First-Out; Published: 11-Dec-2002; LatestRevisionDate: 04-Mar-2005; LatestRevisionNote: Stylized 3D Model Added.; DatasheetVersion: 4-Nov-1997; PackageVersion: Jul-1994; PackageReference: V21; Publisher: Altium Limited; PackageDescription: SOJ, Molded; 28 Leads; Body Width 7.5 mm; ComponentLink1Description: Manufacturer Link; ComponentLink1URL: http://www.cypress.com/; ComponentLink2Description: Datasheet; ComponentLink2URL: http://www.cypress.com/portal/server.pt/gateway/PTARGS_0_2_1524_209_259_43/http%3B/sjapp20.mis.cypress.com%3B7001/publishedcontent/publish/design_resources/datasheets/contents/cy7c419_5.pdf
footprint V21 (SOJ, Molded; 28 Leads; Body Width 7.5 mm)
3D model V21 (SOJ, Molded; 28 Leads; Body Width 7.5 mm)
pins: 1 ~{W} (in), 2 D8 (in), 3 D3 (in), 4 D2 (in), 5 D1 (in), 6 D0 (in), 7 ~{XI} (in), 8 ~{FF} (out), 9 Q0 (out), 10 Q1 (out), 11 Q2 (out), 12 Q3 (out), 13 Q8 (out), 14 GND (power), 15 ~{R} (in), 16 Q4 (out), 17 Q5 (out), 18 Q6 (out), 19 Q7 (out), 20 ~{XO}/~{HF} (out), 21 ~{EF} (out), 22 ~{MR} (in), 23 ~{FL}/~{RT} (in), 24 D7 (in), 25 D6 (in), 26 D5 (in), 27 D4 (in), 28 VCC (power)

## CY7C429-25DMB
designator U?
2K x 9 Asynchronous First-In First-Out; Published: 11-Dec-2002; LatestRevisionDate: 04-Mar-2005; LatestRevisionNote: Stylized 3D Model Added.; DatasheetVersion: 4-Nov-1997; PackageVersion: Mar-1997; PackageReference: D22; Publisher: Altium Limited; PackageDescription: CerDIP; 28 Leads; Row Spacing 7.62 mm; Pitch 2.54 mm; ComponentLink1Description: Manufacturer Link; ComponentLink1URL: http://www.cypress.com/; ComponentLink2Description: Datasheet; ComponentLink2URL: http://www.cypress.com/portal/server.pt/gateway/PTARGS_0_2_1524_209_259_43/http%3B/sjapp20.mis.cypress.com%3B7001/publishedcontent/publish/design_resources/datasheets/contents/cy7c419_5.pdf
footprint D22 (CerDIP; 28 Leads; Row Spacing 7.62 mm; Pitch 2.54 mm)
3D model D22 (CerDIP; 28 Leads; Row Spacing 7.62 mm; Pitch 2.54 mm)
pins: 1 ~{W} (in), 2 D8 (in), 3 D3 (in), 4 D2 (in), 5 D1 (in), 6 D0 (in), 7 ~{XI} (in), 8 ~{FF} (out), 9 Q0 (out), 10 Q1 (out), 11 Q2 (out), 12 Q3 (out), 13 Q8 (out), 14 GND (power), 15 ~{R} (in), 16 Q4 (out), 17 Q5 (out), 18 Q6 (out), 19 Q7 (out), 20 ~{XO}/~{HF} (out), 21 ~{EF} (out), 22 ~{MR} (in), 23 ~{FL}/~{RT} (in), 24 D7 (in), 25 D6 (in), 26 D5 (in), 27 D4 (in), 28 VCC (power)

## CY7C429-25JC
designator U?
2K x 9 Asynchronous First-In First-Out; Published: 11-Dec-2002; LatestRevisionDate: 04-Mar-2005; LatestRevisionNote: Stylized 3D Model Added.; DatasheetVersion: 4-Nov-1997; PackageVersion: Nov-1997; PackageReference: J65; Publisher: Altium Limited; PackageDescription: PLCC; 32 Leads; Body 11.4 x 14 mm; Pitch 1.27 mm; Code_JEDEC: MS-016-AE; Code_IPC: PLCC/R-32; ComponentLink1Description: Manufacturer Link; ComponentLink1URL: http://www.cypress.com/; ComponentLink2Description: Datasheet; ComponentLink2URL: http://www.cypress.com/portal/server.pt/gateway/PTARGS_0_2_1524_209_259_43/http%3B/sjapp20.mis.cypress.com%3B7001/publishedcontent/publish/design_resources/datasheets/contents/cy7c419_5.pdf
footprint J65 (PLCC; 32 Leads; Body 11.4 x 14 mm; Pitch 1.27 mm)
3D model CY7C429-J65 (PLCC; 32 Leads; Body 11.4 x 14 mm; Pitch 1.27 mm)
pins: 1 NC, 2 ~{W} (in), 3 D8 (in), 4 D3 (in), 5 D2 (in), 6 D1 (in), 7 D0 (in), 8 ~{XI} (in), 9 ~{FF} (out), 10 Q0 (out), 11 Q1 (out), 12 NC, 13 Q2 (out), 14 Q3 (out), 15 Q8 (out), 16 GND (power), 17 NC, 18 ~{R} (in), 19 Q4 (out), 20 Q5 (out), 21 Q6 (out), 22 Q7 (out), 23 ~{XO}/~{HF} (out), 24 ~{EF} (out), 25 ~{MR} (in), 26 ~{FL}/~{RT} (in), 27 NC, 28 D7 (in), 29 D6 (in), 30 D5 (in), 31 D4 (in), 32 VCC (power)

## CY7C429-25JI
designator U?
2K x 9 Asynchronous First-In First-Out; Published: 11-Dec-2002; LatestRevisionDate: 04-Mar-2005; LatestRevisionNote: Stylized 3D Model Added.; DatasheetVersion: 4-Nov-1997; PackageVersion: Nov-1997; PackageReference: J65; Publisher: Altium Limited; PackageDescription: PLCC; 32 Leads; Body 11.4 x 14 mm; Pitch 1.27 mm; Code_JEDEC: MS-016-AE; Code_IPC: PLCC/R-32; ComponentLink1Description: Manufacturer Link; ComponentLink1URL: http://www.cypress.com/; ComponentLink2Description: Datasheet; ComponentLink2URL: http://www.cypress.com/portal/server.pt/gateway/PTARGS_0_2_1524_209_259_43/http%3B/sjapp20.mis.cypress.com%3B7001/publishedcontent/publish/design_resources/datasheets/contents/cy7c419_5.pdf
footprint J65 (PLCC; 32 Leads; Body 11.4 x 14 mm; Pitch 1.27 mm)
3D model CY7C429-J65 (PLCC; 32 Leads; Body 11.4 x 14 mm; Pitch 1.27 mm)
pins: 1 NC, 2 ~{W} (in), 3 D8 (in), 4 D3 (in), 5 D2 (in), 6 D1 (in), 7 D0 (in), 8 ~{XI} (in), 9 ~{FF} (out), 10 Q0 (out), 11 Q1 (out), 12 NC, 13 Q2 (out), 14 Q3 (out), 15 Q8 (out), 16 GND (power), 17 NC, 18 ~{R} (in), 19 Q4 (out), 20 Q5 (out), 21 Q6 (out), 22 Q7 (out), 23 ~{XO}/~{HF} (out), 24 ~{EF} (out), 25 ~{MR} (in), 26 ~{FL}/~{RT} (in), 27 NC, 28 D7 (in), 29 D6 (in), 30 D5 (in), 31 D4 (in), 32 VCC (power)

## CY7C429-25LMB
designator U?
2K x 9 Asynchronous First-In First-Out; Published: 11-Dec-2002; DatasheetVersion: 4-Nov-1997; PackageVersion: Nov-1997; PackageReference: L55; Publisher: Altium Limited; PackageDescription: Leadless Chip Carrier; 32 Terminals; Body 11.4 x 14 mm; ComponentLink1Description: Manufacturer Link; ComponentLink1URL: http://www.cypress.com/; ComponentLink2Description: Datasheet; ComponentLink2URL: http://www.cypress.com/portal/server.pt/gateway/PTARGS_0_2_1524_209_259_43/http%3B/sjapp20.mis.cypress.com%3B7001/publishedcontent/publish/design_resources/datasheets/contents/cy7c419_5.pdf
footprint L55 (Leadless Chip Carrier; 32 Terminals; Body 11.4 x 14 mm)
pins: 1 NC, 2 ~{W} (in), 3 D8 (in), 4 D3 (in), 5 D2 (in), 6 D1 (in), 7 D0 (in), 8 ~{XI} (in), 9 ~{FF} (out), 10 Q0 (out), 11 Q1 (out), 12 NC, 13 Q2 (out), 14 Q3 (out), 15 Q8 (out), 16 GND (power), 17 NC, 18 ~{R} (in), 19 Q4 (out), 20 Q5 (out), 21 Q6 (out), 22 Q7 (out), 23 ~{XO}/~{HF} (out), 24 ~{EF} (out), 25 ~{MR} (in), 26 ~{FL}/~{RT} (in), 27 NC, 28 D7 (in), 29 D6 (in), 30 D5 (in), 31 D4 (in), 32 VCC (power)

## CY7C429-25PC
designator U?
2K x 9 Asynchronous First-In First-Out; Published: 11-Dec-2002; LatestRevisionDate: 04-Mar-2005; LatestRevisionNote: Stylized 3D Model Added.; DatasheetVersion: 4-Nov-1997; PackageVersion: Jul-2000; PackageReference: P21; Publisher: Altium Limited; PackageDescription: DIP, Molded; 28 Leads; Row Spacing 7.62 mm; Pitch 2.54 mm; ComponentLink1Description: Manufacturer Link; ComponentLink1URL: http://www.cypress.com/; ComponentLink2Description: Datasheet; ComponentLink2URL: http://www.cypress.com/portal/server.pt/gateway/PTARGS_0_2_1524_209_259_43/http%3B/sjapp20.mis.cypress.com%3B7001/publishedcontent/publish/design_resources/datasheets/contents/cy7c419_5.pdf
footprint P21 (DIP, Molded; 28 Leads; Row Spacing 7.62 mm; Pitch 2.54 mm)
3D model P21 (DIP, Molded; 28 Leads; Row Spacing 7.62 mm; Pitch 2.54 mm)
pins: 1 ~{W} (in), 2 D8 (in), 3 D3 (in), 4 D2 (in), 5 D1 (in), 6 D0 (in), 7 ~{XI} (in), 8 ~{FF} (out), 9 Q0 (out), 10 Q1 (out), 11 Q2 (out), 12 Q3 (out), 13 Q8 (out), 14 GND (power), 15 ~{R} (in), 16 Q4 (out), 17 Q5 (out), 18 Q6 (out), 19 Q7 (out), 20 ~{XO}/~{HF} (out), 21 ~{EF} (out), 22 ~{MR} (in), 23 ~{FL}/~{RT} (in), 24 D7 (in), 25 D6 (in), 26 D5 (in), 27 D4 (in), 28 VCC (power)

## CY7C429-25VC
designator U?
2K x 9 Asynchronous First-In First-Out; Published: 11-Dec-2002; LatestRevisionDate: 04-Mar-2005; LatestRevisionNote: Stylized 3D Model Added.; DatasheetVersion: 4-Nov-1997; PackageVersion: Jul-1994; PackageReference: V21; Publisher: Altium Limited; PackageDescription: SOJ, Molded; 28 Leads; Body Width 7.5 mm; ComponentLink1Description: Manufacturer Link; ComponentLink1URL: http://www.cypress.com/; ComponentLink2Description: Datasheet; ComponentLink2URL: http://www.cypress.com/portal/server.pt/gateway/PTARGS_0_2_1524_209_259_43/http%3B/sjapp20.mis.cypress.com%3B7001/publishedcontent/publish/design_resources/datasheets/contents/cy7c419_5.pdf
footprint V21 (SOJ, Molded; 28 Leads; Body Width 7.5 mm)
3D model V21 (SOJ, Molded; 28 Leads; Body Width 7.5 mm)
pins: 1 ~{W} (in), 2 D8 (in), 3 D3 (in), 4 D2 (in), 5 D1 (in), 6 D0 (in), 7 ~{XI} (in), 8 ~{FF} (out), 9 Q0 (out), 10 Q1 (out), 11 Q2 (out), 12 Q3 (out), 13 Q8 (out), 14 GND (power), 15 ~{R} (in), 16 Q4 (out), 17 Q5 (out), 18 Q6 (out), 19 Q7 (out), 20 ~{XO}/~{HF} (out), 21 ~{EF} (out), 22 ~{MR} (in), 23 ~{FL}/~{RT} (in), 24 D7 (in), 25 D6 (in), 26 D5 (in), 27 D4 (in), 28 VCC (power)

## CY7C429-30DMB
designator U?
2K x 9 Asynchronous First-In First-Out; Published: 11-Dec-2002; LatestRevisionDate: 04-Mar-2005; LatestRevisionNote: Stylized 3D Model Added.; DatasheetVersion: 4-Nov-1997; PackageVersion: Mar-1997; PackageReference: D22; Publisher: Altium Limited; PackageDescription: CerDIP; 28 Leads; Row Spacing 7.62 mm; Pitch 2.54 mm; ComponentLink1Description: Manufacturer Link; ComponentLink1URL: http://www.cypress.com/; ComponentLink2Description: Datasheet; ComponentLink2URL: http://www.cypress.com/portal/server.pt/gateway/PTARGS_0_2_1524_209_259_43/http%3B/sjapp20.mis.cypress.com%3B7001/publishedcontent/publish/design_resources/datasheets/contents/cy7c419_5.pdf
footprint D22 (CerDIP; 28 Leads; Row Spacing 7.62 mm; Pitch 2.54 mm)
3D model D22 (CerDIP; 28 Leads; Row Spacing 7.62 mm; Pitch 2.54 mm)
pins: 1 ~{W} (in), 2 D8 (in), 3 D3 (in), 4 D2 (in), 5 D1 (in), 6 D0 (in), 7 ~{XI} (in), 8 ~{FF} (out), 9 Q0 (out), 10 Q1 (out), 11 Q2 (out), 12 Q3 (out), 13 Q8 (out), 14 GND (power), 15 ~{R} (in), 16 Q4 (out), 17 Q5 (out), 18 Q6 (out), 19 Q7 (out), 20 ~{XO}/~{HF} (out), 21 ~{EF} (out), 22 ~{MR} (in), 23 ~{FL}/~{RT} (in), 24 D7 (in), 25 D6 (in), 26 D5 (in), 27 D4 (in), 28 VCC (power)

## CY7C429-30JC
designator U?
2K x 9 Asynchronous First-In First-Out; Published: 11-Dec-2002; LatestRevisionDate: 04-Mar-2005; LatestRevisionNote: Stylized 3D Model Added.; DatasheetVersion: 4-Nov-1997; PackageVersion: Nov-1997; PackageReference: J65; Publisher: Altium Limited; PackageDescription: PLCC; 32 Leads; Body 11.4 x 14 mm; Pitch 1.27 mm; Code_JEDEC: MS-016-AE; Code_IPC: PLCC/R-32; ComponentLink1Description: Manufacturer Link; ComponentLink1URL: http://www.cypress.com/; ComponentLink2Description: Datasheet; ComponentLink2URL: http://www.cypress.com/portal/server.pt/gateway/PTARGS_0_2_1524_209_259_43/http%3B/sjapp20.mis.cypress.com%3B7001/publishedcontent/publish/design_resources/datasheets/contents/cy7c419_5.pdf
footprint J65 (PLCC; 32 Leads; Body 11.4 x 14 mm; Pitch 1.27 mm)
3D model CY7C429-J65 (PLCC; 32 Leads; Body 11.4 x 14 mm; Pitch 1.27 mm)
pins: 1 NC, 2 ~{W} (in), 3 D8 (in), 4 D3 (in), 5 D2 (in), 6 D1 (in), 7 D0 (in), 8 ~{XI} (in), 9 ~{FF} (out), 10 Q0 (out), 11 Q1 (out), 12 NC, 13 Q2 (out), 14 Q3 (out), 15 Q8 (out), 16 GND (power), 17 NC, 18 ~{R} (in), 19 Q4 (out), 20 Q5 (out), 21 Q6 (out), 22 Q7 (out), 23 ~{XO}/~{HF} (out), 24 ~{EF} (out), 25 ~{MR} (in), 26 ~{FL}/~{RT} (in), 27 NC, 28 D7 (in), 29 D6 (in), 30 D5 (in), 31 D4 (in), 32 VCC (power)

## CY7C429-30PC
designator U?
2K x 9 Asynchronous First-In First-Out; Published: 11-Dec-2002; LatestRevisionDate: 04-Mar-2005; LatestRevisionNote: Stylized 3D Model Added.; DatasheetVersion: 4-Nov-1997; PackageVersion: Jul-2000; PackageReference: P21; Publisher: Altium Limited; PackageDescription: DIP, Molded; 28 Leads; Row Spacing 7.62 mm; Pitch 2.54 mm; ComponentLink1Description: Manufacturer Link; ComponentLink1URL: http://www.cypress.com/; ComponentLink2Description: Datasheet; ComponentLink2URL: http://www.cypress.com/portal/server.pt/gateway/PTARGS_0_2_1524_209_259_43/http%3B/sjapp20.mis.cypress.com%3B7001/publishedcontent/publish/design_resources/datasheets/contents/cy7c419_5.pdf
footprint P21 (DIP, Molded; 28 Leads; Row Spacing 7.62 mm; Pitch 2.54 mm)
3D model P21 (DIP, Molded; 28 Leads; Row Spacing 7.62 mm; Pitch 2.54 mm)
pins: 1 ~{W} (in), 2 D8 (in), 3 D3 (in), 4 D2 (in), 5 D1 (in), 6 D0 (in), 7 ~{XI} (in), 8 ~{FF} (out), 9 Q0 (out), 10 Q1 (out), 11 Q2 (out), 12 Q3 (out), 13 Q8 (out), 14 GND (power), 15 ~{R} (in), 16 Q4 (out), 17 Q5 (out), 18 Q6 (out), 19 Q7 (out), 20 ~{XO}/~{HF} (out), 21 ~{EF} (out), 22 ~{MR} (in), 23 ~{FL}/~{RT} (in), 24 D7 (in), 25 D6 (in), 26 D5 (in), 27 D4 (in), 28 VCC (power)

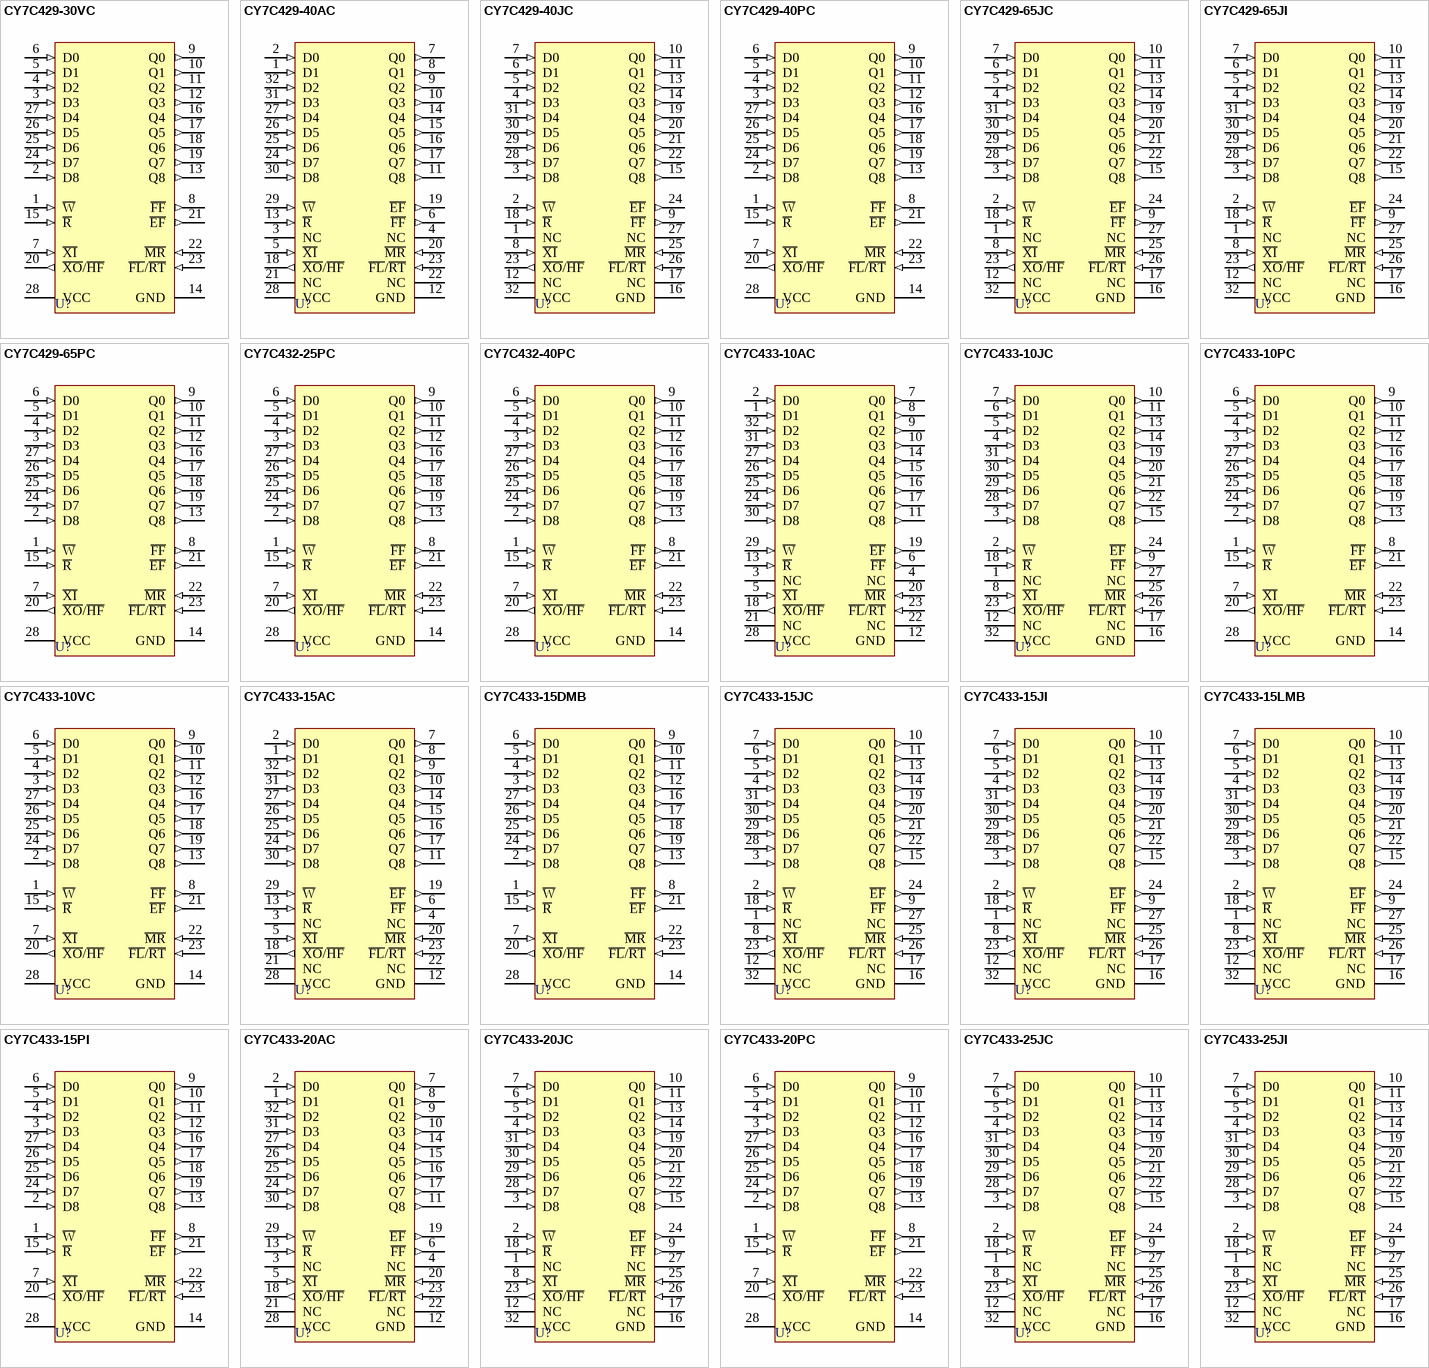
[diagram p5: symbols CY7C429-30VC to CY7C433-25JI]

## CY7C429-30VC
designator U?
2K x 9 Asynchronous First-In First-Out; Published: 11-Dec-2002; LatestRevisionDate: 04-Mar-2005; LatestRevisionNote: Stylized 3D Model Added.; DatasheetVersion: 4-Nov-1997; PackageVersion: Jul-1994; PackageReference: V21; Publisher: Altium Limited; PackageDescription: SOJ, Molded; 28 Leads; Body Width 7.5 mm; ComponentLink1Description: Manufacturer Link; ComponentLink1URL: http://www.cypress.com/; ComponentLink2Description: Datasheet; ComponentLink2URL: http://www.cypress.com/portal/server.pt/gateway/PTARGS_0_2_1524_209_259_43/http%3B/sjapp20.mis.cypress.com%3B7001/publishedcontent/publish/design_resources/datasheets/contents/cy7c419_5.pdf
footprint V21 (SOJ, Molded; 28 Leads; Body Width 7.5 mm)
3D model V21 (SOJ, Molded; 28 Leads; Body Width 7.5 mm)
pins: 1 ~{W} (in), 2 D8 (in), 3 D3 (in), 4 D2 (in), 5 D1 (in), 6 D0 (in), 7 ~{XI} (in), 8 ~{FF} (out), 9 Q0 (out), 10 Q1 (out), 11 Q2 (out), 12 Q3 (out), 13 Q8 (out), 14 GND (power), 15 ~{R} (in), 16 Q4 (out), 17 Q5 (out), 18 Q6 (out), 19 Q7 (out), 20 ~{XO}/~{HF} (out), 21 ~{EF} (out), 22 ~{MR} (in), 23 ~{FL}/~{RT} (in), 24 D7 (in), 25 D6 (in), 26 D5 (in), 27 D4 (in), 28 VCC (power)

## CY7C429-40AC
designator U?
2K x 9 Asynchronous First-In First-Out; Published: 11-Dec-2002; LatestRevisionDate: 13-Apr-2006; LatestRevisionNote: IPC-7351 Footprint Added.; DatasheetVersion: 4-Nov-1997; PackageVersion: Nov-1997; PackageReference: A32; Publisher: Altium Limited; PackageDescription: 32-Pin Thin Plastic Quad Flat Pack 0.8 mm Pitch; ComponentLink1Description: Manufacturer Link; ComponentLink1URL: http://www.cypress.com/; ComponentLink2Description: Datasheet; ComponentLink2URL: http://www.cypress.com/portal/server.pt/gateway/PTARGS_0_2_1524_209_259_43/http%3B/sjapp20.mis.cypress.com%3B7001/publishedcontent/publish/design_resources/datasheets/contents/cy7c419_5.pdf
footprint A32_N (Thin QFP, 32-Leads, Body 7x7mm, Pitch 0.8mm, IPC Medium Density)
footprint A32_L (Thin QFP, 32-Leads, Body 7x7mm, Pitch 0.8mm, IPC High Density)
footprint A32_M (Thin QFP, 32-Leads, Body 7x7mm, Pitch 0.8mm, IPC Low Density)
3D model CY7C429-A32 (32-Pin Thin Plastic Quad Flat Pack 0.8 mm Pitch)
pins: 1 D1 (in), 2 D0 (in), 3 NC, 4 NC, 5 ~{XI} (in), 6 ~{FF} (out), 7 Q0 (out), 8 Q1 (out), 9 Q2 (out), 10 Q3 (out), 11 Q8 (out), 12 GND (power), 13 ~{R} (in), 14 Q4 (out), 15 Q5 (out), 16 Q6 (out), 17 Q7 (out), 18 ~{XO}/~{HF} (out), 19 ~{EF} (out), 20 ~{MR} (in), 21 NC, 22 NC, 23 ~{FL}/~{RT} (in), 24 D7 (in), 25 D6 (in), 26 D5 (in), 27 D4 (in), 28 VCC (power), 29 ~{W} (in), 30 D8 (in), 31 D3 (in), 32 D2 (in)

## CY7C429-40JC
designator U?
2K x 9 Asynchronous First-In First-Out; Published: 11-Dec-2002; LatestRevisionDate: 04-Mar-2005; LatestRevisionNote: Stylized 3D Model Added.; DatasheetVersion: 4-Nov-1997; PackageVersion: Nov-1997; PackageReference: J65; Publisher: Altium Limited; PackageDescription: PLCC; 32 Leads; Body 11.4 x 14 mm; Pitch 1.27 mm; Code_JEDEC: MS-016-AE; Code_IPC: PLCC/R-32; ComponentLink1Description: Manufacturer Link; ComponentLink1URL: http://www.cypress.com/; ComponentLink2Description: Datasheet; ComponentLink2URL: http://www.cypress.com/portal/server.pt/gateway/PTARGS_0_2_1524_209_259_43/http%3B/sjapp20.mis.cypress.com%3B7001/publishedcontent/publish/design_resources/datasheets/contents/cy7c419_5.pdf
footprint J65 (PLCC; 32 Leads; Body 11.4 x 14 mm; Pitch 1.27 mm)
3D model CY7C429-J65 (PLCC; 32 Leads; Body 11.4 x 14 mm; Pitch 1.27 mm)
pins: 1 NC, 2 ~{W} (in), 3 D8 (in), 4 D3 (in), 5 D2 (in), 6 D1 (in), 7 D0 (in), 8 ~{XI} (in), 9 ~{FF} (out), 10 Q0 (out), 11 Q1 (out), 12 NC, 13 Q2 (out), 14 Q3 (out), 15 Q8 (out), 16 GND (power), 17 NC, 18 ~{R} (in), 19 Q4 (out), 20 Q5 (out), 21 Q6 (out), 22 Q7 (out), 23 ~{XO}/~{HF} (out), 24 ~{EF} (out), 25 ~{MR} (in), 26 ~{FL}/~{RT} (in), 27 NC, 28 D7 (in), 29 D6 (in), 30 D5 (in), 31 D4 (in), 32 VCC (power)

## CY7C429-40PC
designator U?
2K x 9 Asynchronous First-In First-Out; Published: 11-Dec-2002; LatestRevisionDate: 04-Mar-2005; LatestRevisionNote: Stylized 3D Model Added.; DatasheetVersion: 4-Nov-1997; PackageVersion: Jul-2000; PackageReference: P21; Publisher: Altium Limited; PackageDescription: DIP, Molded; 28 Leads; Row Spacing 7.62 mm; Pitch 2.54 mm; ComponentLink1Description: Manufacturer Link; ComponentLink1URL: http://www.cypress.com/; ComponentLink2Description: Datasheet; ComponentLink2URL: http://www.cypress.com/portal/server.pt/gateway/PTARGS_0_2_1524_209_259_43/http%3B/sjapp20.mis.cypress.com%3B7001/publishedcontent/publish/design_resources/datasheets/contents/cy7c419_5.pdf
footprint P21 (DIP, Molded; 28 Leads; Row Spacing 7.62 mm; Pitch 2.54 mm)
3D model P21 (DIP, Molded; 28 Leads; Row Spacing 7.62 mm; Pitch 2.54 mm)
pins: 1 ~{W} (in), 2 D8 (in), 3 D3 (in), 4 D2 (in), 5 D1 (in), 6 D0 (in), 7 ~{XI} (in), 8 ~{FF} (out), 9 Q0 (out), 10 Q1 (out), 11 Q2 (out), 12 Q3 (out), 13 Q8 (out), 14 GND (power), 15 ~{R} (in), 16 Q4 (out), 17 Q5 (out), 18 Q6 (out), 19 Q7 (out), 20 ~{XO}/~{HF} (out), 21 ~{EF} (out), 22 ~{MR} (in), 23 ~{FL}/~{RT} (in), 24 D7 (in), 25 D6 (in), 26 D5 (in), 27 D4 (in), 28 VCC (power)